# EAGLE library part 2QSP16-15E (library EW_Resistors)
BOURNS RESISTOR NETWORK
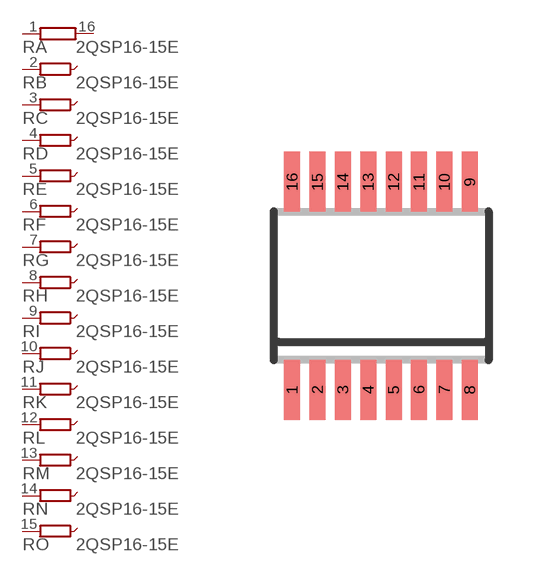
[diagram p83: symbol with the pads of 2QSP16; footprint 2QSP16]

Designator prefix R; gates A=R1NV-13 B=R1NVXX-6 C=R1NVXX-6 D=R1NVXX-6 E=R1NVXX-6 F=R1NVXX-6 G=R1NVXX-6 H=R1NVXX-6 I=R1NVXX-6 J=R1NVXX-6 K=R1NVXX-6 L=R1NVXX-6 M=R1NVXX-6 N=R1NVXX-6 O=R1NVXX-6

## 2QSP16-15E (OC_FARNELL: unknown; OC_NEWARK: unknown)  [2QSP16]
1  A:1  pas
2  B:1  pas
3  C:1  pas
4  D:1  pas
5  E:1  pas
6  F:1  pas
7  G:1  pas
8  H:1  pas
9  I:1  pas
10  J:1  pas
11  K:1  pas
12  L:1  pas
13  M:1  pas
14  N:1  pas
15  O:1  pas
16  A:2  pas

## Footprint 2QSP16 (pad centres in mm)
BOURNS RESISTOR NETWORK
smd 0.4 x 1.5: 1 -2.223,-2.6; 2 -1.588,-2.6; 3 -0.953,-2.6; 4 -0.318,-2.6; 5 0.318,-2.6; 6 0.953,-2.6; 7 1.588,-2.6; 8 2.223,-2.6; 9 2.223,2.6; 10 1.588,2.6; 11 0.953,2.6; 12 0.318,2.6; 13 -0.318,2.6; 14 -0.953,2.6; 15 -1.588,2.6; 16 -2.223,2.6